# Altium footprint library 401.14-4.PcbLib: 1 footprints
Each footprint in its own frame and in the unit in brackets; x right, y up, seen from the top. Pads: shape width x height; smd on the part's side, far side on the other; paste and mask are expansions set on the pad; w line width, h text height; cw(c..) or ccw(c..) is an arc to the next point about the centre after c.
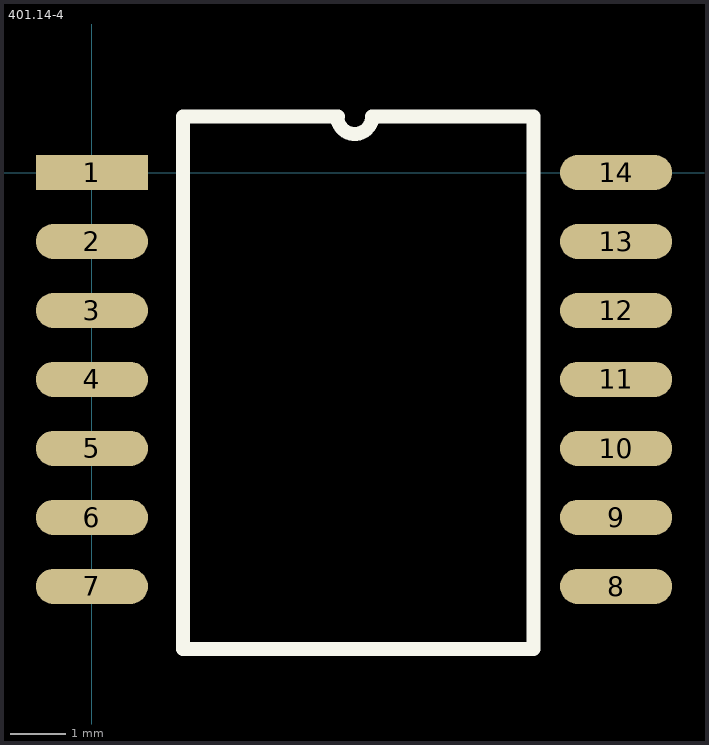
[diagram p0: the footprint, top view; thin cyan lines are the x and y axes]

## 401.14-4 [mm]
height 2.3
pads (14):
  rect 2.032x0.635 smd: 1(0,0)
  oval 2.032x0.635 smd: 2(0,-1.25) 3(0,-2.5) 4(0,-3.75) 5(0,-5) 6(0,-6.25) 7(0,-7.5) 8(9.5,-7.5) 9(9.5,-6.25) 10(9.5,-5) 11(9.5,-3.75) 12(9.5,-2.5) 13(9.5,-1.25) 14(9.5,0)
Top Overlay:
  lines w0.254: 4.445,1.016 ccw(c4.763,1.016) 5.08,1.016 ; 4.458,1.016 1.651,1.016 1.651,-8.636 8.001,-8.636 8.001,1.016 5.093,1.016
3D body "401_14-5.step": height 1.4, standoff 0, extent -0.187,-8.75 9.713,1.25